# Altium schematic symbol library D-Digital.SchLib: 20 symbols
Pins are listed as number, name and electrical type; pins without a type are passive.

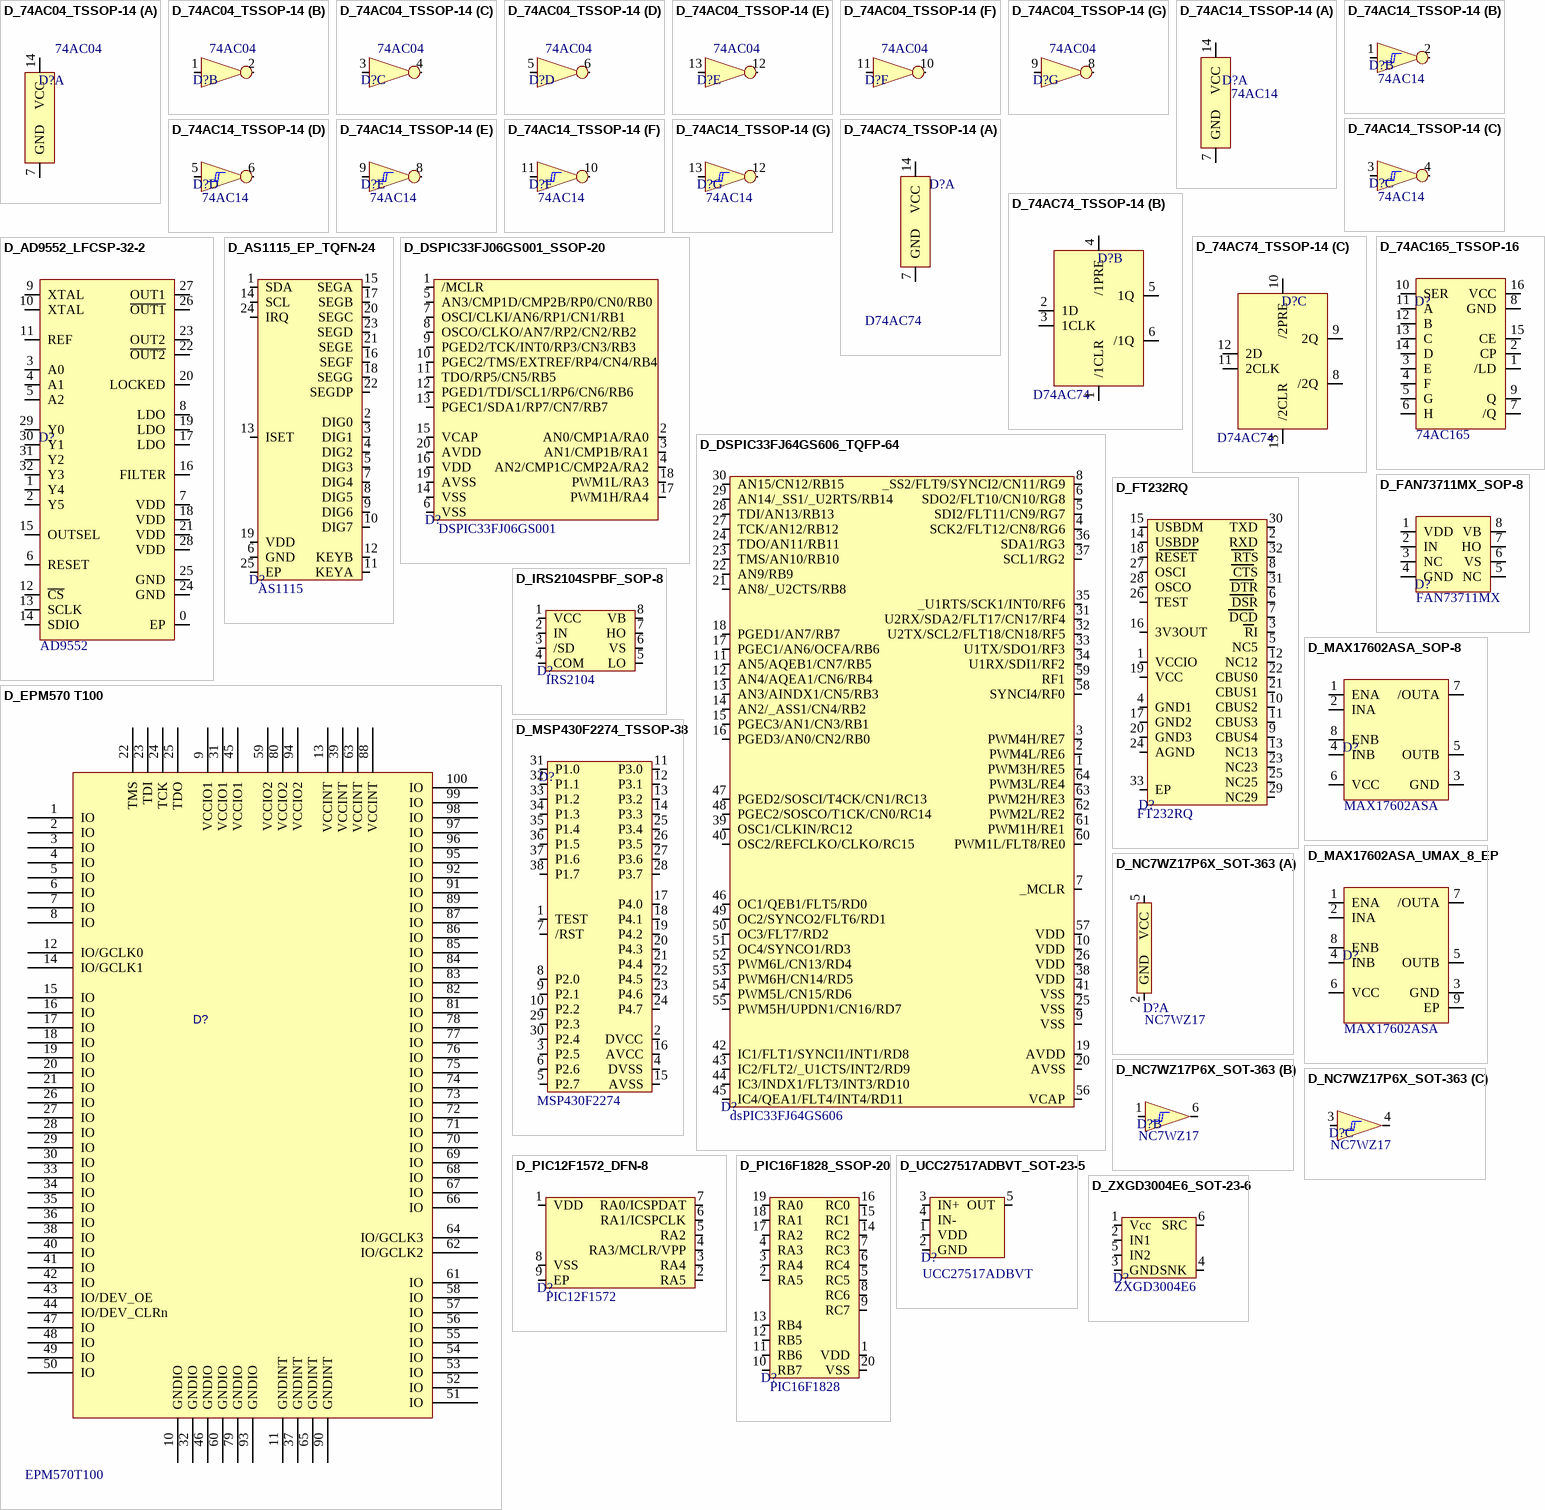
[diagram p0: symbols D_74AC04_TSSOP-14 to D_ZXGD3004E6_SOT-23-6]

## D_74AC04_TSSOP-14
designator D?, comment 74AC04
Supplier - Digikey: 296-1054-1-ND; Type: 74AC04
footprint SMD_TSSOP_14
part A pins: 7 GND, 14 VCC
part B pins: 1 1A, 2 1Y
part C pins: 3 2A, 4 2Y
part D pins: 5 3A, 6 3Y
part E pins: 12 4Y, 13 4A
part F pins: 10 5Y, 11 5A
part G pins: 8 6Y, 9 6A

## D_74AC14_TSSOP-14
designator D?, comment 74AC14
HEX SCHMITT-TRIGGER INVERTERS; Supplier - DigiKey: 296-4302-1-ND; Type: 74AC14
footprint SMD_TSSOP_14
part A pins: 7 GND, 14 VCC
part B pins: 1 1A, 2 1Y
part C pins: 3 2A, 4 2Y
part D pins: 5 3A, 6 3Y
part E pins: 8 4Y, 9 4A
part F pins: 10 5Y, 11 5A
part G pins: 12 6Y, 13 6A

## D_74AC74_TSSOP-14
designator D?  Type: D74AC74  (hidden comment: D_74AC74_TSSOP-14)
DUAL POSITIVE-EDGE-TRIGGERED D-TYPE FLIP-FLOPS; Supplier - Digikey: 296-1064-2-ND
footprint SMD_TSSOP_14
part A pins: 7 GND, 14 VCC
part B pins: 1 /1CLR, 2 1D, 3 1CLK, 4 /1PRE, 5 1Q, 6 /1Q
part C pins: 8 /2Q, 9 2Q, 10 /2PRE, 11 2CLK, 12 2D, 13 /2CLR

## D_74AC165_TSSOP-16
designator D?, comment 74AC165
8-BIT PARALLEL-LOAD SHIFT REGISTERS; Supplier - Digikey: 296-8253-1-ND; Type: 74AC165
footprint SMD_TSSOP_16
pins: 1 /LD, 2 CP, 3 E, 4 F, 5 G, 6 H, 7 /Q, 8 GND, 9 Q, 10 SER, 11 A, 12 B, 13 C, 14 D, 15 CE, 16 VCC

## D_AD9552_LFCSP-32-2
designator D?, comment AD9552
Fractional-N PLL clock generator; Supplier - Digikey: AD9552BCPZ-ND; Type: AD9552
footprint SMD_LFCSP-32-2
pins: 0 EP "Exposed Pad (GND)", 1 Y4, 2 Y5, 3 A0, 4 A1, 5 A2, 6 RESET, 7 VDD, 8 LDO, 9 XTAL, 10 XTAL, 11 REF, 12 ~{CS}, 13 SCLK, 14 SDIO, 15 OUTSEL, 16 FILTER, 17 LDO, 18 VDD, 19 LDO, 20 LOCKED, 21 VDD, 22 ~{OUT2}, 23 OUT2, 24 GND, 25 GND, 26 ~{OUT1}, 27 OUT1, 28 VDD, 29 Y0, 30 Y1, 31 Y2, 32 Y3

## D_AS1115_EP_TQFN-24
designator D?  Type: AS1115  (hidden comment: D_AS1115_EP_TQFN-24)
64 single LEDs or 8 Digit 7-seg LED driver I2C interface; Supplier - Digikey: AS1115-BQFTCT-ND
footprint SMD_TQFN-24
pins: 1 SDA, 2 DIG0, 3 DIG1, 4 DIG2, 5 DIG3, 6 GND, 7 DIG4, 8 DIG5, 9 DIG6, 10 DIG7, 11 KEYA, 12 KEYB, 13 ISET, 14 SCL, 15 SEGA, 16 SEGF, 17 SEGB, 18 SEGG, 19 VDD, 20 SEGC, 21 SEGE, 22 SEGDP, 23 SEGD, 24 IRQ, 25 EP

## D_DSPIC33FJ06GS001_SSOP-20
designator D?  Type: DSPIC33FJ06GS001  (hidden comment: D_DSPIC33FJ06GS001_SSOP-20)
IC DSC 16BIT 6KB FLASH 20SSOP; Supplier - Digikey: DSPIC33FJ06GS001-I/SS-ND
footprint SMD_SSOP_20
pins: 1 /MCLR, 2 AN0/CMP1A/RA0, 3 AN1/CMP1B/RA1, 4 AN2/CMP1C/CMP2A/RA2, 5 AN3/CMP1D/CMP2B/RP0/CN0/RB0, 6 VSS, 7 OSCI/CLKI/AN6/RP1/CN1/RB1, 8 OSCO/CLKO/AN7/RP2/CN2/RB2, 9 PGED2/TCK/INT0/RP3/CN3/RB3, 10 PGEC2/TMS/EXTREF/RP4/CN4/RB4, 11 TDO/RP5/CN5/RB5, 12 PGED1/TDI/SCL1/RP6/CN6/RB6, 13 PGEC1/SDA1/RP7/CN7/RB7, 14 VSS, 15 VCAP, 16 VDD, 17 PWM1H/RA4, 18 PWM1L/RA3, 19 AVSS, 20 AVDD

## D_DSPIC33FJ64GS606_TQFP-64
designator D?  Type: dsPIC33FJ64GS606  (hidden comment: D_DSPIC33FJ64GS606_TQFP-64)
16-Bit Digital Signal Controllers with High-Speed PWM, / ADC and Comparators; Supplier - Digikey: DSPIC33FJ64GS606-I/PT-ND
footprint SMD_TQFP-64
pins: 1 PWM3H/RE5, 2 PWM4L/RE6, 3 PWM4H/RE7, 4 SCK2/FLT12/CN8/RG6, 5 SDI2/FLT11/CN9/RG7, 6 SDO2/FLT10/CN10/RG8, 7 _MCLR, 8 _SS2/FLT9/SYNCI2/CN11/RG9, 9 VSS, 10 VDD, 11 AN5/AQEB1/CN7/RB5, 12 AN4/AQEA1/CN6/RB4, 13 AN3/AINDX1/CN5/RB3, 14 AN2/_ASS1/CN4/RB2, 15 PGEC3/AN1/CN3/RB1, 16 PGED3/AN0/CN2/RB0, 17 PGEC1/AN6/OCFA/RB6, 18 PGED1/AN7/RB7, 19 AVDD, 20 AVSS, 21 AN8/_U2CTS/RB8, 22 AN9/RB9, 23 TMS/AN10/RB10, 24 TDO/AN11/RB11, 25 VSS, 26 VDD, 27 TCK/AN12/RB12, 28 TDI/AN13/RB13, 29 AN14/_SS1/_U2RTS/RB14, 30 AN15/CN12/RB15, 31 U2RX/SDA2/FLT17/CN17/RF4, 32 U2TX/SCL2/FLT18/CN18/RF5, 33 U1TX/SDO1/RF3, 34 U1RX/SDI1/RF2, 35 _U1RTS/SCK1/INT0/RF6, 36 SDA1/RG3, 37 SCL1/RG2, 38 VDD, 39 OSC1/CLKIN/RC12, 40 OSC2/REFCLKO/CLKO/RC15, 41 VSS, 42 IC1/FLT1/SYNCI1/INT1/RD8, 43 IC2/FLT2/_U1CTS/INT2/RD9, 44 IC3/INDX1/FLT3/INT3/RD10, 45 IC4/QEA1/FLT4/INT4/RD11, 46 OC1/QEB1/FLT5/RD0, 47 PGED2/SOSCI/T4CK/CN1/RC13, 48 PGEC2/SOSCO/T1CK/CN0/RC14, 49 OC2/SYNCO2/FLT6/RD1, 50 OC3/FLT7/RD2, 51 OC4/SYNCO1/RD3, 52 PWM6L/CN13/RD4, 53 PWM6H/CN14/RD5, 54 PWM5L/CN15/RD6, 55 PWM5H/UPDN1/CN16/RD7, 56 VCAP, 57 VDD, 58 SYNCI4/RF0, 59 RF1, 60 PWM1L/FLT8/RE0, 61 PWM1H/RE1, 62 PWM2L/RE2, 63 PWM2H/RE3, 64 PWM3L/RE4

## D_EPM570 T100
designator D?, comment EPM570T100
CPLD; Type: EPM570T100
footprint SMD_F-QFP14X14-G100/N
pins: 1 IO, 2 IO, 3 IO, 4 IO, 5 IO, 6 IO, 7 IO, 8 IO, 9 VCCIO1, 10 GNDIO, 11 GNDINT, 12 IO/GCLK0, 13 VCCINT, 14 IO/GCLK1, 15 IO, 16 IO, 17 IO, 18 IO, 19 IO, 20 IO, 21 IO, 22 TMS, 23 TDI, 24 TCK, 25 TDO, 26 IO, 27 IO, 28 IO, 29 IO, 30 IO, 31 VCCIO1, 32 GNDIO, 33 IO, 34 IO, 35 IO, 36 IO, 37 GNDINT, 38 IO, 39 VCCINT, 40 IO, 41 IO, 42 IO, 43 IO/DEV_OE, 44 IO/DEV_CLRn, 45 VCCIO1, 46 GNDIO, 47 IO, 48 IO, 49 IO, 50 IO, 51 IO, 52 IO, 53 IO, 54 IO, 55 IO, 56 IO, 57 IO, 58 IO, 59 VCCIO2, 60 GNDIO, 61 IO, 62 IO/GCLK2, 63 VCCINT, 64 IO/GCLK3, 65 GNDINT, 66 IO, 67 IO, 68 IO, 69 IO, 70 IO, 71 IO, 72 IO, 73 IO, 74 IO, 75 IO, 76 IO, 77 IO, 78 IO, 79 GNDIO, 80 VCCIO2, 81 IO, 82 IO, 83 IO, 84 IO, 85 IO, 86 IO, 87 IO, 88 VCCINT, 89 IO, 90 GNDINT, 91 IO, 92 IO, 93 GNDIO, 94 VCCIO2, 95 IO, 96 IO, 97 IO, 98 IO, 99 IO, 100 IO

## D_FAN73711MX_SOP-8
designator D?  Type: FAN73711MX  (hidden comment: D_FAN73711MX_SOP-8)
High-Current, High-Side Gate Driver IC; Supplier - Digikey: FAN73711MXCT-ND
footprint SMD_SOP_8
pins: 1 VDD, 2 IN, 3 NC, 4 GND, 5 NC, 6 VS, 7 HO, 8 VB

## D_FT232RQ
designator D?  Type: FT232RQ  (hidden comment: D_FT232RQ)
FT232r USB UART IC; Supplier - Digikey: 768-1008-1-ND
footprint SMD_QFN-32
pins: 1 VCCIO, 2 RXD, 3 RI, 4 GND1, 5 NC5, 6 DSR, 7 DCD, 8 CTS, 9 CBUS4, 10 CBUS2, 11 CBUS3, 12 NC12, 13 NC13, 14 USBDP, 15 USBDM, 16 3V3OUT, 17 GND2, 18 RESET, 19 VCC, 20 GND3, 21 CBUS1, 22 CBUS0, 23 NC23, 24 AGND, 25 NC25, 26 TEST, 27 OSCI, 28 OSCO, 29 NC29, 30 TXD, 31 DTR, 32 RTS, 33 EP

## D_IRS2104SPBF_SOP-8
designator D?  Type: IRS2104  (hidden comment: D_IRS2104SPBF_SOP-8)
Half-Bridge Driver, 600V; Supplier - Digikey: IRS2104SPBF-ND
footprint SMD_SOP_8
pins: 1 VCC, 2 IN, 3 /SD, 4 COM, 5 LO, 6 VS, 7 HO, 8 VB

## D_MAX17602ASA_SOP-8
designator D?  Type: MAX17602ASA  (hidden comment: D_MAX17602ASA_SOP-8)
4A Sink /Source Current, 12ns, Dual MOSFET Drivers; Supplier - Digikey: MAX17602ASA+-ND
footprint SMD_SOP_8
pins: 1 ENA, 2 INA, 3 GND, 4 INB, 5 OUTB, 6 VCC, 7 /OUTA, 8 ENB

## D_MAX17602ASA_UMAX_8_EP
designator D?  Type: MAX17602ASA  (hidden comment: D_MAX17602ASA_UMAX_8_EP)
4A Sink /Source Current, 12ns, Dual MOSFET Drivers; Supplier - Digikey: MAX17602AUA+T-ND
footprint SMD_UMAX_8_EP
pins: 1 ENA, 2 INA, 3 GND, 4 INB, 5 OUTB, 6 VCC, 7 /OUTA, 8 ENB, 9 EP

## D_MSP430F2274_TSSOP-38
designator D?  Type: MSP430F2274  (hidden comment: D_MSP430F2274_TSSOP-38)
Mixed Signal Microcontroller; Supplier - E+H-flowtec SAP: 71137246
footprint SMD_TSSOP_38
pins: 1 TEST, 2 DVCC, 3 P2.5, 4 DVSS, 5 P2.7, 6 P2.6, 7 /RST, 8 P2.0, 9 P2.1, 10 P2.2, 11 P3.0, 12 P3.1, 13 P3.2, 14 P3.3, 15 AVSS, 16 AVCC, 17 P4.0, 18 P4.1, 19 P4.2, 20 P4.3, 21 P4.4, 22 P4.5, 23 P4.6, 24 P4.7, 25 P3.4, 26 P3.5, 27 P3.6, 28 P3.7, 29 P2.3, 30 P2.4, 31 P1.0, 32 P1.1, 33 P1.2, 34 P1.3, 35 P1.4, 36 P1.5, 37 P1.6, 38 P1.7

## D_NC7WZ17P6X_SOT-363
designator D?  Type: NC7WZ17  (hidden comment: D_NC7WZ17P6X_SOT-363)
Dual Buffer with Schmitt Trigger Inputs; Supplier - Digikey: NC7WZ17P6XCT-ND
footprint SMD_SOT_36_3
part A pins: 2 GND, 5 VCC
part B pins: 1 A1, 6 Y1
part C pins: 3 A2, 4 Y2

## D_PIC12F1572_DFN-8
designator D?  Type: PIC12F1572  (hidden comment: D_PIC12F1572_DFN-8)
8-Pin MCU with High Precision 16-bit PWMs; Supplier - Digikey: PIC12F1572-I/MF-ND
footprint SMD_DFN_8
pins: 1 VDD, 2 RA5, 3 RA4, 4 RA3/MCLR/VPP, 5 RA2, 6 RA1/ICSPCLK, 7 RA0/ICSPDAT, 8 VSS, 9 EP

## D_PIC16F1828_SSOP-20
designator D?  (value not drawn)
PIC16F1828; Supplier - Digikey: PIC16F1828-I/SS-ND; Type: PIC16F1828
footprint SMD_SSOP_20
pins: 1 VDD, 2 RA5, 3 RA4, 4 RA3, 5 RC5, 6 RC4, 7 RC3, 8 RC6, 9 RC7, 10 RB7, 11 RB6, 12 RB5, 13 RB4, 14 RC2, 15 RC1, 16 RC0, 17 RA2, 18 RA1, 19 RA0, 20 VSS

## D_UCC27517ADBVT_SOT-23-5
designator D?  Type: UCC27517ADBVT  (hidden comment: D_UCC27517ADBVT_SOT-23-5)
IC GATE DVR LOW SIDE 1CH SOT23-5; Supplier - Digikey: 296-36899-1-ND
footprint SMD_SOT_23_5
pins: 1 VDD, 2 GND, 3 IN+, 4 IN-, 5 OUT

## D_ZXGD3004E6_SOT-23-6
designator D?  Type: ZXGD3004E6  (hidden comment: D_ZXGD3004E6_SOT-23-6)
8A(peak) gate driver in SOT23-6; Supplier - Digikey: ZXGD3004E6CT-ND
footprint SMD_SOT_23_6
pins: 1 Vcc, 2 IN1, 3 GND, 4 SNK, 5 IN2, 6 SRC